# Altium footprint library CON2X5_2MM.PcbLib: 1 footprints
Each footprint in its own frame and in the unit in brackets; x right, y up, seen from the top. Pads: shape width x height; smd on the part's side, far side on the other; paste and mask are expansions set on the pad; w line width, h text height; cw(c..) or ccw(c..) is an arc to the next point about the centre after c.
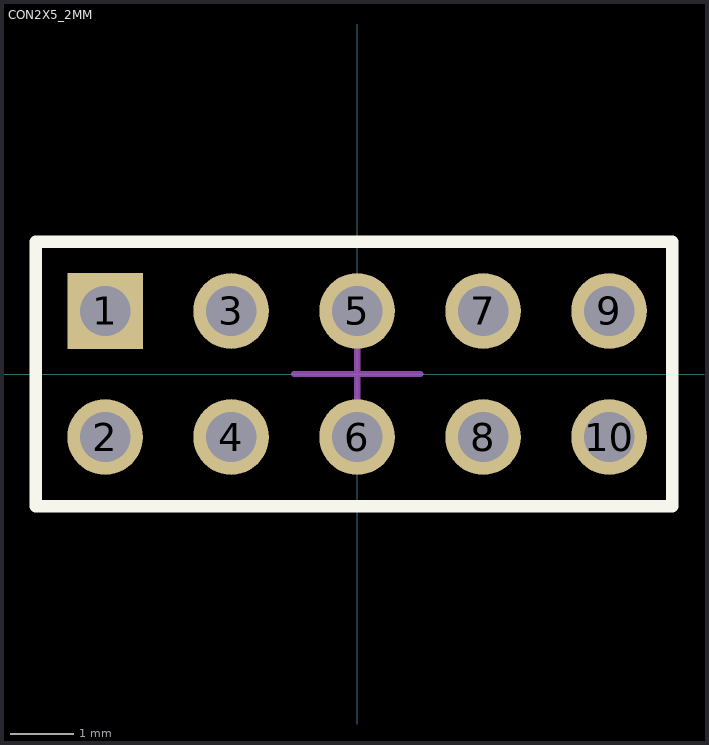
[diagram p0: the footprint, top view; thin cyan lines are the x and y axes]

## CON2X5_2MM [mm]
height 0.224
pads (10):
  rect 1.2x1.2 hole 0.8: 1(-4,1)
  round 1.2 hole 0.8: 2(-4,-1) 3(-2,1) 4(-2,-1) 5(0,1) 6(0,-1) 7(2,1) 8(2,-1) 9(4,1) 10(4,-1)
Top Overlay:
  lines w0.2: -5.1,-2.1 -5.1,2.1 5,2.1 5,-2.1 -5.1,-2.1
Mechanical 15:
  lines w0.1: -1,0 1,0 ; 0,-1 0,1 ; -5.1,-2.1 5,-2.1 5,2.1 -5.1,2.1 -5.1,-2.1
3D body: height 6, standoff -2.8, extent -5,-2 5,2